# EAGLE library part AD5242 (library anton)
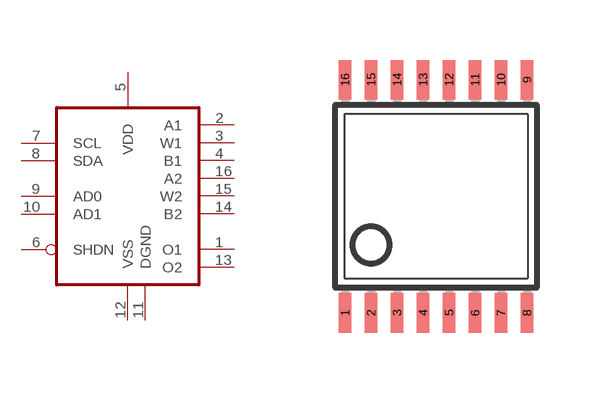
[diagram p19: symbol with the pads of TSSOP16; footprint TSSOP16]

Designator prefix U

## AD5242  [TSSOP16]
1  O1
2  A1
3  W1
4  B1
5  VDD
6  SHDN
7  SCL
8  SDA
9  AD0
10  AD1
11  DGND
12  VSS
13  O2
14  B2
15  W2
16  A2

## Footprint TSSOP16 (pad centres in mm)
Thin Shrink Small Outline Plastic 16 MAX3223-MAX3243.pdf
smd 0.305 x 0.991: 1 -2.275,-2.918; 2 -1.625,-2.918; 3 -0.975,-2.918; 4 -0.325,-2.918; 5 0.325,-2.918; 6 0.975,-2.918; 7 1.625,-2.918; 8 2.275,-2.918; 9 2.275,2.918; 10 1.625,2.918; 11 0.975,2.918; 12 0.325,2.918; 13 -0.325,2.918; 14 -0.975,2.918; 15 -1.625,2.918; 16 -2.275,2.918